# Altium schematic symbol library VL53L1.SchLib: 2 symbols
Pins are listed as number, name and electrical type; pins without a type are passive.

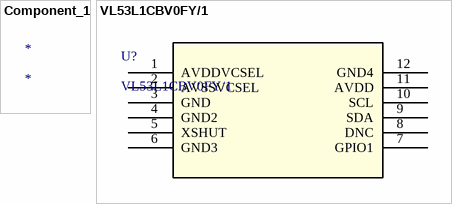
[diagram p0: symbols Component_1 to VL53L1CBV0FY/1]

## Component_1
designator *

## VL53L1CBV0FY/1
designator U?
No Description Available; Built_By: EMA_Matt; Vendor: STMicroelectronics; SourceLibrary: STMicroelectronics_2020-10-06_1; Datasheet: https://www.st.com/resource/en/datasheet/vl53l1x.pdf; Copyright: Copyright (C) 2018 Accelerated Designs. All rights reserved; Manufacturer_Part_Number: VL53L1CBV0FY/1; RefDes: RefDes; Type: DEV
footprint QFN_BV0FY/1_STM
pins: 1 AVDDVCSEL (power), 2 AVSSVCSEL, 3 GND, 4 GND2, 5 XSHUT, 6 GND3, 7 GPIO1, 8 DNC, 9 SDA, 10 SCL, 11 AVDD (power), 12 GND4